# Altium footprint library WE-SHC.PcbLib: 139 footprints (part 9 of 10)
Each footprint in its own frame and in the unit in brackets; x right, y up, seen from the top. Pads: shape width x height; smd on the part's side, far side on the other; paste and mask are expansions set on the pad; w line width, h text height; cw(c..) or ccw(c..) is an arc to the next point about the centre after c.
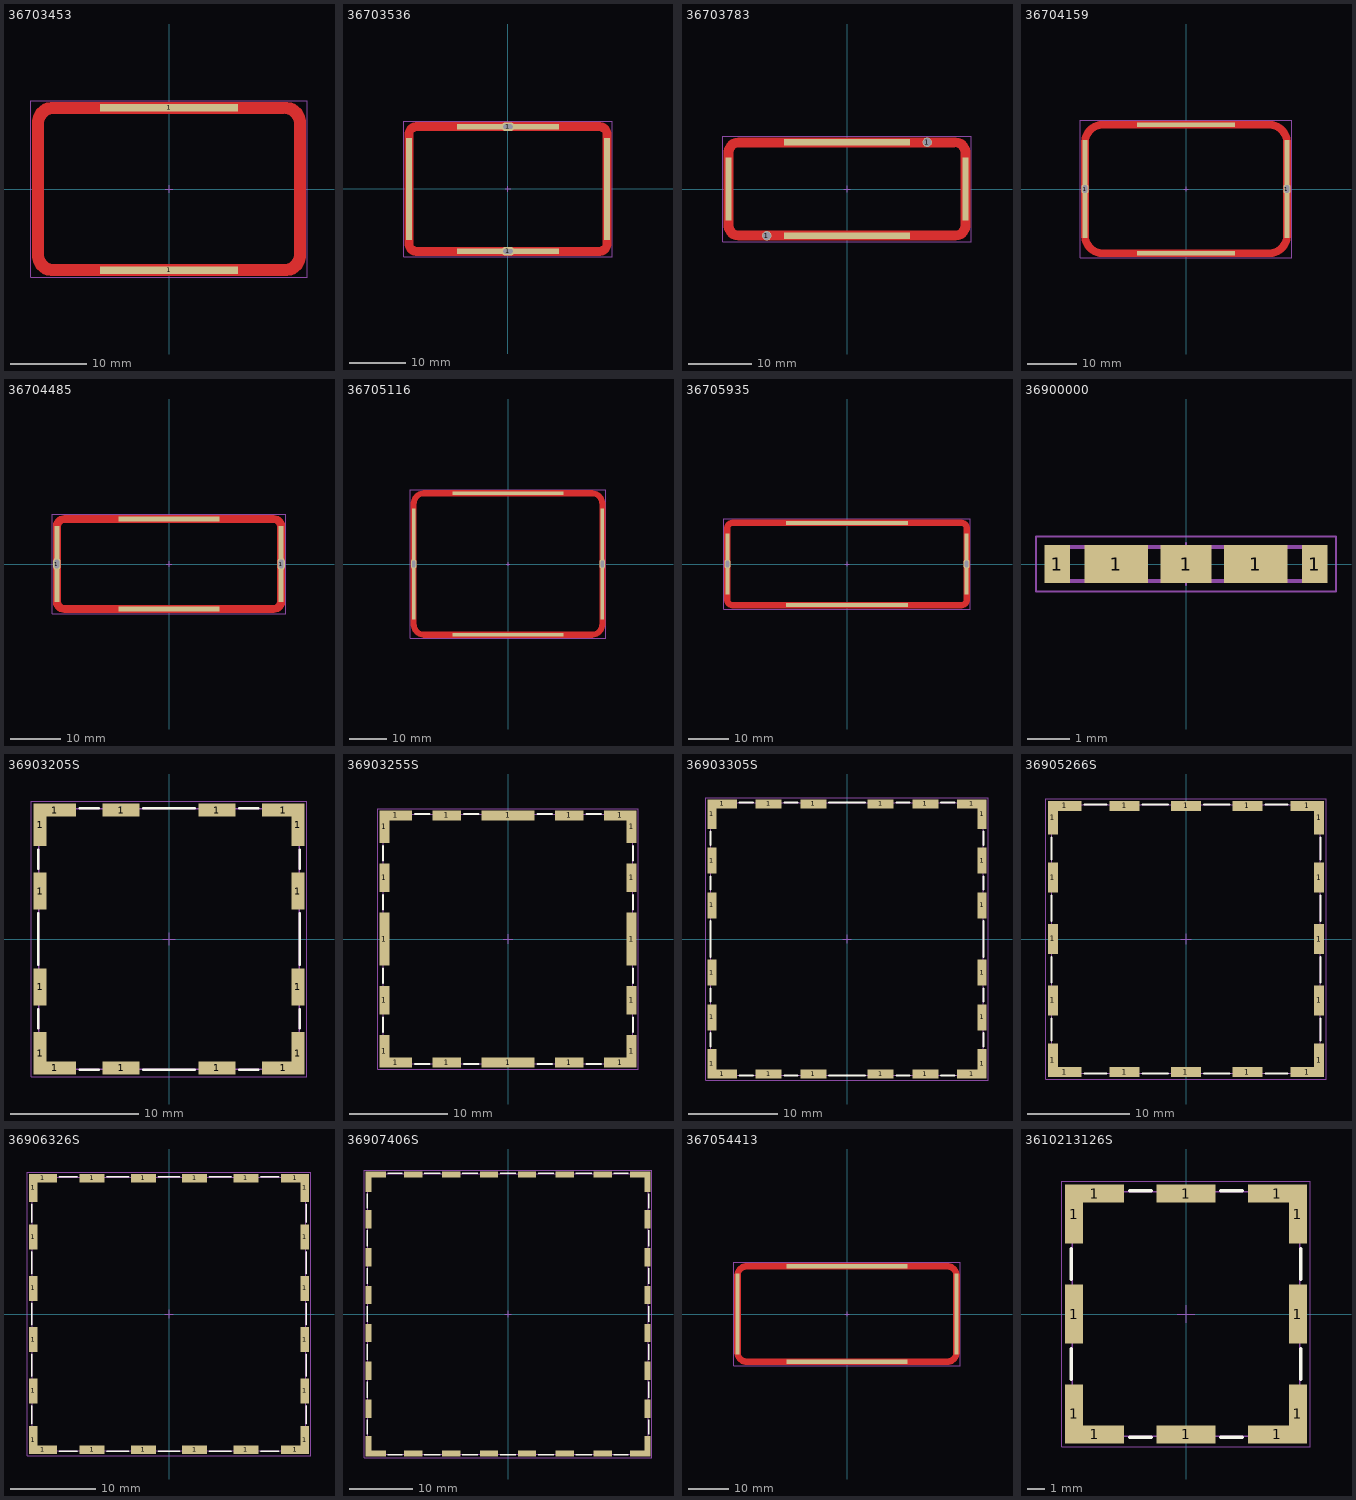
[diagram p8: the footprints below, top view; thin cyan lines are the x and y axes]

## 36703453 [mm] "Shielding Cabinet, SMT Frame Seamless, 34.5x21.5x3.2mm"
height 3.2
pads (2):
  rect 18x1 smd paste-2539.97 mask-2222: 1(0,-10.6) 1(0,10.6)
Top Layer:
  region: -17.85,-0.25 -17.85,-8.75 -17.85,-9.006 -17.75,-9.508 -17.554,-9.982 -17.27,-10.407 -16.907,-10.77 -16.482,-11.054 -16.008,-11.25 -15.506,-11.35 -15.25,-11.35 15.25,-11.35 15.506,-11.35 16.008,-11.25 16.482,-11.054 16.907,-10.77 17.27,-10.407 17.554,-9.982 17.75,-9.508 17.85,-9.006 17.85,-8.75 17.85,-0.25 16.35,-0.25 16.35,-8.55 16.344,-8.677 16.294,-8.927 16.196,-9.163 16.055,-9.375 15.875,-9.555 15.663,-9.696 15.427,-9.794 15.177,-9.844 15.05,-9.85 -15.05,-9.85 -15.177,-9.844 -15.427,-9.794 -15.663,-9.696 -15.875,-9.555 -16.055,-9.375 -16.196,-9.163 -16.294,-8.927 -16.344,-8.677 -16.35,-8.55 -16.35,-0.25
  region: -17.85,-1 -17.85,8.75 -17.85,9.006 -17.75,9.508 -17.554,9.982 -17.27,10.407 -16.907,10.77 -16.482,11.054 -16.008,11.25 -15.506,11.35 -15.25,11.35 15.25,11.35 15.506,11.35 16.008,11.25 16.482,11.054 16.907,10.77 17.27,10.407 17.554,9.982 17.75,9.508 17.85,9.006 17.85,8.75 17.85,-1 16.35,-1 16.35,8.55 16.344,8.677 16.294,8.927 16.196,9.163 16.055,9.375 15.875,9.555 15.663,9.696 15.427,9.794 15.177,9.844 15.05,9.85 -15.05,9.85 -15.177,9.844 -15.427,9.794 -15.663,9.696 -15.875,9.555 -16.055,9.375 -16.196,9.163 -16.294,8.927 -16.344,8.677 -16.35,8.55 -16.35,-1
Top Paste:
  region: -17.85,0.25 -17.85,8.75 -17.85,9.006 -17.75,9.508 -17.554,9.982 -17.27,10.407 -16.907,10.77 -16.482,11.054 -16.008,11.25 -15.506,11.35 -15.25,11.35 15.25,11.35 15.506,11.35 16.008,11.25 16.482,11.054 16.907,10.77 17.27,10.407 17.554,9.982 17.75,9.508 17.85,9.006 17.85,8.75 17.85,0.25 16.35,0.25 16.35,8.55 16.344,8.677 16.294,8.927 16.196,9.163 16.055,9.375 15.875,9.555 15.663,9.696 15.427,9.794 15.177,9.844 15.05,9.85 -15.05,9.85 -15.177,9.844 -15.427,9.794 -15.663,9.696 -15.875,9.555 -16.055,9.375 -16.196,9.163 -16.294,8.927 -16.344,8.677 -16.35,8.55 -16.35,0.25
  region: -17.85,-0.25 -17.85,-8.75 -17.85,-9.006 -17.75,-9.508 -17.554,-9.982 -17.27,-10.407 -16.907,-10.77 -16.482,-11.054 -16.008,-11.25 -15.506,-11.35 -15.25,-11.35 15.25,-11.35 15.506,-11.35 16.008,-11.25 16.482,-11.054 16.907,-10.77 17.27,-10.407 17.554,-9.982 17.75,-9.508 17.85,-9.006 17.85,-8.75 17.85,-0.25 16.35,-0.25 16.35,-8.55 16.344,-8.677 16.294,-8.927 16.196,-9.163 16.055,-9.375 15.875,-9.555 15.663,-9.696 15.427,-9.794 15.177,-9.844 15.05,-9.85 -15.05,-9.85 -15.177,-9.844 -15.427,-9.794 -15.663,-9.696 -15.875,-9.555 -16.055,-9.375 -16.196,-9.163 -16.294,-8.927 -16.344,-8.677 -16.35,-8.55 -16.35,-0.25
Assembly Notes:
  text "recommended tin paste thickness=0.5mm / customer to define the final stencil gap" at -5.4,-13 h0.4
Top Component Outline:
  lines w0.1: -17.25,-8.75 ccw(c-15.25,-8.75) -15.25,-10.75 15.25,-10.75 ccw(c15.25,-8.75) 17.25,-8.75 17.25,8.75 ccw(c15.25,8.75) 15.25,10.75 -15.25,10.75 ccw(c-15.25,8.75) -17.25,8.75 -17.25,-8.75
Top 3D Body:
  lines w0.1: -17.25,-8.75 ccw(c-15.25,-8.75) -15.25,-10.75 15.25,-10.75 ccw(c15.25,-8.75) 17.25,-8.75 17.25,8.75 ccw(c15.25,8.75) 15.25,10.75 -15.25,10.75 ccw(c-15.25,8.75) -17.25,8.75 -17.25,-8.75
Top Courtyard:
  lines w0.05: -18.05,-11.55 18.05,-11.55 18.05,11.55 -18.05,11.55 -18.05,-11.55
Top Component Center:
  lines w0.05: -0.5,0 0.5,0 ; 0,-0.5 0,0.5
Top Designator (Mech19):
  text ".Designator" at -7.498,-0.5 h1.5
3D body "36703453.stp": height 3.2, standoff 0, extent -17.25,-10.75 17.25,10.75

## 36703536 [mm] "Shielding Cabinet, SMT Frame Seamless, 35.3x22.3x6.4mm"
height 6.4
pads (6):
  rect 1x18 smd paste-2539.97 mask-2222: 1(-17.5,0) 1(17.5,0)
  rect 18x1 smd paste-2539.97 mask-2222: 1(0,-11) 1(0,11)
  oval 2.4x1.5 hole 0.8 slot 1.6 at 0 deg: 1(0,-11) 1(0,11)
Top Layer:
  region: -18.25,-0.25 -18.25,-9.7 -18.25,-9.902 -18.171,-10.298 -18.017,-10.671 -17.792,-11.007 -17.507,-11.292 -17.171,-11.517 -16.798,-11.671 -16.402,-11.75 -16.2,-11.75 16.2,-11.75 16.402,-11.75 16.798,-11.671 17.171,-11.517 17.507,-11.292 17.792,-11.007 18.017,-10.671 18.171,-10.298 18.25,-9.902 18.25,-9.7 18.25,-0.25 16.75,-0.25 16.75,-9.7 16.739,-9.807 16.657,-10.006 16.506,-10.157 16.307,-10.239 16.2,-10.25 -16.2,-10.25 -16.307,-10.239 -16.506,-10.157 -16.657,-10.006 -16.739,-9.807 -16.75,-9.7 -16.75,-0.25
  region: -18.25,-1 -18.25,9.7 -18.25,9.902 -18.171,10.298 -18.017,10.671 -17.792,11.007 -17.507,11.292 -17.171,11.517 -16.798,11.671 -16.402,11.75 -16.2,11.75 16.2,11.75 16.402,11.75 16.798,11.671 17.171,11.517 17.507,11.292 17.792,11.007 18.017,10.671 18.171,10.298 18.25,9.902 18.25,9.7 18.25,-1 16.75,-1 16.75,9.7 16.739,9.807 16.657,10.006 16.506,10.157 16.307,10.239 16.2,10.25 -16.2,10.25 -16.307,10.239 -16.506,10.157 -16.657,10.006 -16.739,9.807 -16.75,9.7 -16.75,-1
Top Paste:
  region: -18.25,0.25 -18.25,9.7 -18.25,9.902 -18.171,10.298 -18.017,10.671 -17.792,11.007 -17.507,11.292 -17.171,11.517 -16.798,11.671 -16.402,11.75 -16.2,11.75 16.2,11.75 16.402,11.75 16.798,11.671 17.171,11.517 17.507,11.292 17.792,11.007 18.017,10.671 18.171,10.298 18.25,9.902 18.25,9.7 18.25,0.25 16.75,0.25 16.75,9.7 16.739,9.807 16.657,10.006 16.506,10.157 16.307,10.239 16.2,10.25 -16.2,10.25 -16.307,10.239 -16.506,10.157 -16.657,10.006 -16.739,9.807 -16.75,9.7 -16.75,0.25
  region: -18.25,-0.25 -18.25,-9.7 -18.25,-9.902 -18.171,-10.298 -18.017,-10.671 -17.792,-11.007 -17.507,-11.292 -17.171,-11.517 -16.798,-11.671 -16.402,-11.75 -16.2,-11.75 16.2,-11.75 16.402,-11.75 16.798,-11.671 17.171,-11.517 17.507,-11.292 17.792,-11.007 18.017,-10.671 18.171,-10.298 18.25,-9.902 18.25,-9.7 18.25,-0.25 16.75,-0.25 16.75,-9.7 16.739,-9.807 16.657,-10.006 16.506,-10.157 16.307,-10.239 16.2,-10.25 -16.2,-10.25 -16.307,-10.239 -16.506,-10.157 -16.657,-10.006 -16.739,-9.807 -16.75,-9.7 -16.75,-0.25
Assembly Notes:
  text "recommended tin paste thickness=0.5mm / customer to define the final stencil gap" at -5.6,-13.4 h0.4
Top Component Outline:
  lines w0.1: -17.65,-9.65 ccw(c-16.15,-9.65) -16.15,-11.15 16.15,-11.15 ccw(c16.15,-9.65) 17.65,-9.65 17.65,9.65 ccw(c16.15,9.65) 16.15,11.15 -16.15,11.15 ccw(c-16.15,9.65) -17.65,9.65 -17.65,-9.65
Top 3D Body:
  lines w0.1: -17.65,-9.65 ccw(c-16.15,-9.65) -16.15,-11.15 16.15,-11.15 ccw(c16.15,-9.65) 17.65,-9.65 17.65,9.65 ccw(c16.15,9.65) 16.15,11.15 -16.15,11.15 ccw(c-16.15,9.65) -17.65,9.65 -17.65,-9.65
Top Courtyard:
  lines w0.05: -18.45,-11.95 18.45,-11.95 18.45,11.95 -18.45,11.95 -18.45,-11.95
Top Component Center:
  lines w0.05: -0.5,0 0.5,0 ; 0,-0.5 0,0.5
Top Designator (Mech19):
  text ".Designator" at -7.498,-0.5 h1.5
3D body "36703536.stp": height 6.4, standoff -0.6, extent -17.65,-11.15 17.65,11.15

## 36703783 [mm] "Shielding Cabinet, SMT Frame Seamless, 37.8x15.1x3.7mm"
height 3.7
pads (6):
  rect 1x10 smd paste-2539.97 mask-2222: 1(-18.75,0) 1(18.75,0)
  round 1.5 hole 1.3: 1(-12.7,-7.4) 1(12.7,7.4)
  rect 20x1 smd paste-2539.97 mask-2222: 1(0,-7.4) 1(0,7.4)
Top Layer:
  region: -19.5,-1 -19.5,5.75 -19.5,5.986 -19.408,6.45 -19.227,6.887 -18.964,7.28 -18.63,7.614 -18.237,7.877 -17.8,8.058 -17.336,8.15 -17.1,8.15 17.1,8.15 17.336,8.15 17.8,8.058 18.237,7.877 18.63,7.614 18.964,7.28 19.227,6.887 19.408,6.45 19.5,5.986 19.5,5.75 19.5,-1 18,-1 18,5.75 17.996,5.838 17.961,6.011 17.894,6.174 17.796,6.321 17.671,6.446 17.524,6.544 17.361,6.611 17.188,6.646 17.1,6.65 -17.1,6.65 -17.188,6.646 -17.361,6.611 -17.524,6.544 -17.671,6.446 -17.796,6.321 -17.894,6.174 -17.961,6.011 -17.996,5.838 -18,5.75 -18,-1
  region: -19.5,-0.25 -19.5,-5.75 -19.5,-5.986 -19.408,-6.45 -19.227,-6.887 -18.964,-7.28 -18.63,-7.614 -18.237,-7.877 -17.8,-8.058 -17.336,-8.15 -17.1,-8.15 17.1,-8.15 17.336,-8.15 17.8,-8.058 18.237,-7.877 18.63,-7.614 18.964,-7.28 19.227,-6.887 19.408,-6.45 19.5,-5.986 19.5,-5.75 19.5,-0.25 18,-0.25 18,-5.75 17.996,-5.838 17.961,-6.011 17.894,-6.174 17.796,-6.321 17.671,-6.446 17.524,-6.544 17.361,-6.611 17.188,-6.646 17.1,-6.65 -17.1,-6.65 -17.188,-6.646 -17.361,-6.611 -17.524,-6.544 -17.671,-6.446 -17.796,-6.321 -17.894,-6.174 -17.961,-6.011 -17.996,-5.838 -18,-5.75 -18,-0.25
Top Paste:
  region: -19.5,-0.25 -19.5,-5.75 -19.5,-5.986 -19.408,-6.45 -19.227,-6.887 -18.964,-7.28 -18.63,-7.614 -18.237,-7.877 -17.8,-8.058 -17.336,-8.15 -17.1,-8.15 17.1,-8.15 17.336,-8.15 17.8,-8.058 18.237,-7.877 18.63,-7.614 18.964,-7.28 19.227,-6.887 19.408,-6.45 19.5,-5.986 19.5,-5.75 19.5,-0.25 18,-0.25 18,-5.75 17.996,-5.838 17.961,-6.011 17.894,-6.174 17.796,-6.321 17.671,-6.446 17.524,-6.544 17.361,-6.611 17.188,-6.646 17.1,-6.65 -17.1,-6.65 -17.188,-6.646 -17.361,-6.611 -17.524,-6.544 -17.671,-6.446 -17.796,-6.321 -17.894,-6.174 -17.961,-6.011 -17.996,-5.838 -18,-5.75 -18,-0.25
  region: -19.5,0.25 -19.5,5.75 -19.5,5.986 -19.408,6.45 -19.227,6.887 -18.964,7.28 -18.63,7.614 -18.237,7.877 -17.8,8.058 -17.336,8.15 -17.1,8.15 17.1,8.15 17.336,8.15 17.8,8.058 18.237,7.877 18.63,7.614 18.964,7.28 19.227,6.887 19.408,6.45 19.5,5.986 19.5,5.75 19.5,0.25 18,0.25 18,5.75 17.996,5.838 17.961,6.011 17.894,6.174 17.796,6.321 17.671,6.446 17.524,6.544 17.361,6.611 17.188,6.646 17.1,6.65 -17.1,6.65 -17.188,6.646 -17.361,6.611 -17.524,6.544 -17.671,6.446 -17.796,6.321 -17.894,6.174 -17.961,6.011 -17.996,5.838 -18,5.75 -18,0.25
Assembly Notes:
  text "recommended tin paste thickness=0.5mm / customer to define the final stencil gap" at -5.2,-9.75 h0.4
Top Component Outline:
  lines w0.1: -18.9,-5.8 ccw(c-17.15,-5.8) -17.15,-7.55 17.15,-7.55 ccw(c17.15,-5.8) 18.9,-5.8 18.9,5.8 ccw(c17.15,5.8) 17.15,7.55 -17.15,7.55 ccw(c-17.15,5.8) -18.9,5.8 -18.9,-5.8
Top 3D Body:
  lines w0.1: -18.9,-5.8 ccw(c-17.15,-5.8) -17.15,-7.55 17.15,-7.55 ccw(c17.15,-5.8) 18.9,-5.8 18.9,5.8 ccw(c17.15,5.8) 17.15,7.55 -17.15,7.55 ccw(c-17.15,5.8) -18.9,5.8 -18.9,-5.8
Top Courtyard:
  lines w0.05: -19.7,-8.35 -19.7,8.35 19.7,8.35 19.7,-8.35 -19.7,-8.35
Top Component Center:
  lines w0.05: -0.5,0 0.5,0 ; 0,-0.5 0,0.5
Top Designator (Mech19):
  text ".Designator" at -7.498,-0.5 h1.5
3D body "36703783.stp": height 3.7, standoff -1, extent -18.9,-7.55 18.9,7.55

## 36704159 [mm] "Shielding Cabinet, SMT Frame Seamless, 41.5x26.5x9.5mm"
height 9.5
pads (6):
  rect 1x20 smd paste-2539.97 mask-2222: 1(-20.6,0) 1(20.6,0)
  oval 1.5x2.2 hole 0.9 slot 1.5 at 90 deg: 1(-20.6,0) 1(20.6,0)
  rect 20x1 smd paste-2539.97 mask-2222: 1(0,-13.1) 1(0,13.1)
Top Layer:
  region: 21.35,-9.45 21.35,9.45 21.35,9.738 21.275,10.31 21.125,10.867 20.905,11.4 20.616,11.9 20.265,12.357 19.857,12.765 19.4,13.116 18.9,13.405 18.367,13.625 17.81,13.775 17.238,13.85 16.95,13.85 0.25,13.85 0.25,12.35 16.95,12.35 17.14,12.344 17.516,12.294 17.882,12.196 18.233,12.051 18.561,11.861 18.862,11.63 19.13,11.362 19.361,11.061 19.551,10.733 19.696,10.382 19.794,10.016 19.844,9.64 19.85,9.45 19.85,-9.45 19.844,-9.64 19.794,-10.016 19.696,-10.382 19.551,-10.733 19.361,-11.061 19.13,-11.362 18.862,-11.63 18.561,-11.861 18.233,-12.051 17.882,-12.196 17.516,-12.294 17.14,-12.344 16.95,-12.35 0.25,-12.35 0.25,-13.85 16.95,-13.85 17.238,-13.85 17.81,-13.775 18.367,-13.625 18.9,-13.405 19.4,-13.116 19.857,-12.765 20.265,-12.357 20.616,-11.9 20.905,-11.4 21.125,-10.867 21.275,-10.31 21.35,-9.738
  region: -21.35,-9.45 -21.35,9.45 -21.35,9.738 -21.275,10.31 -21.125,10.867 -20.905,11.4 -20.616,11.9 -20.265,12.357 -19.857,12.765 -19.4,13.116 -18.9,13.405 -18.367,13.625 -17.81,13.775 -17.238,13.85 -16.95,13.85 1,13.85 1,12.35 -16.95,12.35 -17.14,12.344 -17.516,12.294 -17.882,12.196 -18.233,12.051 -18.561,11.861 -18.862,11.63 -19.13,11.362 -19.361,11.061 -19.551,10.733 -19.696,10.382 -19.794,10.016 -19.844,9.64 -19.85,9.45 -19.85,-9.45 -19.844,-9.64 -19.794,-10.016 -19.696,-10.382 -19.551,-10.733 -19.361,-11.061 -19.13,-11.362 -18.862,-11.63 -18.561,-11.861 -18.233,-12.051 -17.882,-12.196 -17.516,-12.294 -17.14,-12.344 -16.95,-12.35 1,-12.35 1,-13.85 -16.95,-13.85 -17.238,-13.85 -17.81,-13.775 -18.367,-13.625 -18.9,-13.405 -19.4,-13.116 -19.857,-12.765 -20.265,-12.357 -20.616,-11.9 -20.905,-11.4 -21.125,-10.867 -21.275,-10.31 -21.35,-9.738
Top Paste:
  region: -21.35,-9.45 -21.35,9.45 -21.35,9.738 -21.275,10.31 -21.125,10.867 -20.905,11.4 -20.616,11.9 -20.265,12.357 -19.857,12.765 -19.4,13.116 -18.9,13.405 -18.367,13.625 -17.81,13.775 -17.238,13.85 -16.95,13.85 -0.25,13.85 -0.25,12.35 -16.95,12.35 -17.14,12.344 -17.516,12.294 -17.882,12.196 -18.233,12.051 -18.561,11.861 -18.862,11.63 -19.13,11.362 -19.361,11.061 -19.551,10.733 -19.696,10.382 -19.794,10.016 -19.844,9.64 -19.85,9.45 -19.85,-9.45 -19.844,-9.64 -19.794,-10.016 -19.696,-10.382 -19.551,-10.733 -19.361,-11.061 -19.13,-11.362 -18.862,-11.63 -18.561,-11.861 -18.233,-12.051 -17.882,-12.196 -17.516,-12.294 -17.14,-12.344 -16.95,-12.35 -0.25,-12.35 -0.25,-13.85 -16.95,-13.85 -17.238,-13.85 -17.81,-13.775 -18.367,-13.625 -18.9,-13.405 -19.4,-13.116 -19.857,-12.765 -20.265,-12.357 -20.616,-11.9 -20.905,-11.4 -21.125,-10.867 -21.275,-10.31 -21.35,-9.738
  region: 21.35,-9.45 21.35,9.45 21.35,9.738 21.275,10.31 21.125,10.867 20.905,11.4 20.616,11.9 20.265,12.357 19.857,12.765 19.4,13.116 18.9,13.405 18.367,13.625 17.81,13.775 17.238,13.85 16.95,13.85 0.25,13.85 0.25,12.35 16.95,12.35 17.14,12.344 17.516,12.294 17.882,12.196 18.233,12.051 18.561,11.861 18.862,11.63 19.13,11.362 19.361,11.061 19.551,10.733 19.696,10.382 19.794,10.016 19.844,9.64 19.85,9.45 19.85,-9.45 19.844,-9.64 19.794,-10.016 19.696,-10.382 19.551,-10.733 19.361,-11.061 19.13,-11.362 18.862,-11.63 18.561,-11.861 18.233,-12.051 17.882,-12.196 17.516,-12.294 17.14,-12.344 16.95,-12.35 0.25,-12.35 0.25,-13.85 16.95,-13.85 17.238,-13.85 17.81,-13.775 18.367,-13.625 18.9,-13.405 19.4,-13.116 19.857,-12.765 20.265,-12.357 20.616,-11.9 20.905,-11.4 21.125,-10.867 21.275,-10.31 21.35,-9.738
Assembly Notes:
  text "recommended tin paste thickness=0.5mm / customer to define the final stencil gap" at -6.35,-15.45 h0.4
Top Component Outline:
  lines w0.1: -20.75,-9.5 ccw(c-17,-9.5) -17,-13.25 17,-13.25 ccw(c17,-9.5) 20.75,-9.5 20.75,9.5 ccw(c17,9.5) 17,13.25 -17,13.25 ccw(c-17,9.5) -20.75,9.5 -20.75,-9.5
Top 3D Body:
  lines w0.1: -20.75,-9.5 ccw(c-17,-9.5) -17,-13.25 17,-13.25 ccw(c17,-9.5) 20.75,-9.5 20.75,9.5 ccw(c17,9.5) 17,13.25 -17,13.25 ccw(c-17,9.5) -20.75,9.5 -20.75,-9.5
Top Courtyard:
  lines w0.05: -21.55,-14.05 -21.55,14.05 21.55,14.05 21.55,-14.05 -21.55,-14.05
Top Component Center:
  lines w0.05: -0.5,0 0.5,0 ; 0,-0.5 0,0.5
Top Designator (Mech19):
  text ".Designator" at -7.498,-0.5 h1.5
3D body "36704159.stp": height 9.5, standoff -0.6, extent -20.75,-13.25 20.75,13.25

## 36704485 [mm] "Shielding Cabinet, SMT Frame Seamless, 44.8x18.2x5.7mm"
height 5.7
pads (6):
  rect 1x15 smd paste-2539.97 mask-2222: 1(-22.25,0) 1(22.25,0)
  oval 1.5x2.5 hole 0.9 slot 1.7 at 90 deg: 1(-22.25,0) 1(22.25,0)
  rect 20x1 smd paste-2539.97 mask-2222: 1(0,-8.95) 1(0,8.95)
Top Layer:
  region: 23,-7.3 23,7.3 23,7.536 22.908,8 22.727,8.437 22.464,8.83 22.13,9.164 21.737,9.427 21.3,9.608 20.836,9.7 20.6,9.7 0.25,9.7 0.25,8.2 20.6,8.2 20.688,8.196 20.861,8.161 21.024,8.094 21.171,7.996 21.296,7.871 21.394,7.724 21.461,7.561 21.496,7.388 21.5,7.3 21.5,-7.3 21.496,-7.388 21.461,-7.561 21.394,-7.724 21.296,-7.871 21.171,-7.996 21.024,-8.094 20.861,-8.161 20.688,-8.196 20.6,-8.2 0.25,-8.2 0.25,-9.7 20.6,-9.7 20.836,-9.7 21.3,-9.608 21.737,-9.427 22.13,-9.164 22.464,-8.83 22.727,-8.437 22.908,-8 23,-7.536
  region: -23,-7.3 -23,7.3 -23,7.536 -22.908,8 -22.727,8.437 -22.464,8.83 -22.13,9.164 -21.737,9.427 -21.3,9.608 -20.836,9.7 -20.6,9.7 1,9.7 1,8.2 -20.6,8.2 -20.688,8.196 -20.861,8.161 -21.024,8.094 -21.171,7.996 -21.296,7.871 -21.394,7.724 -21.461,7.561 -21.496,7.388 -21.5,7.3 -21.5,-7.3 -21.496,-7.388 -21.461,-7.561 -21.394,-7.724 -21.296,-7.871 -21.171,-7.996 -21.024,-8.094 -20.861,-8.161 -20.688,-8.196 -20.6,-8.2 1,-8.2 1,-9.7 -20.6,-9.7 -20.836,-9.7 -21.3,-9.608 -21.737,-9.427 -22.13,-9.164 -22.464,-8.83 -22.727,-8.437 -22.908,-8 -23,-7.536
Top Paste:
  region: -23,-7.3 -23,7.3 -23,7.536 -22.908,8 -22.727,8.437 -22.464,8.83 -22.13,9.164 -21.737,9.427 -21.3,9.608 -20.836,9.7 -20.6,9.7 -0.25,9.7 -0.25,8.2 -20.6,8.2 -20.688,8.196 -20.861,8.161 -21.024,8.094 -21.171,7.996 -21.296,7.871 -21.394,7.724 -21.461,7.561 -21.496,7.388 -21.5,7.3 -21.5,-7.3 -21.496,-7.388 -21.461,-7.561 -21.394,-7.724 -21.296,-7.871 -21.171,-7.996 -21.024,-8.094 -20.861,-8.161 -20.688,-8.196 -20.6,-8.2 -0.25,-8.2 -0.25,-9.7 -20.6,-9.7 -20.836,-9.7 -21.3,-9.608 -21.737,-9.427 -22.13,-9.164 -22.464,-8.83 -22.727,-8.437 -22.908,-8 -23,-7.536
  region: 23,-7.3 23,7.3 23,7.536 22.908,8 22.727,8.437 22.464,8.83 22.13,9.164 21.737,9.427 21.3,9.608 20.836,9.7 20.6,9.7 0.25,9.7 0.25,8.2 20.6,8.2 20.688,8.196 20.861,8.161 21.024,8.094 21.171,7.996 21.296,7.871 21.394,7.724 21.461,7.561 21.496,7.388 21.5,7.3 21.5,-7.3 21.496,-7.388 21.461,-7.561 21.394,-7.724 21.296,-7.871 21.171,-7.996 21.024,-8.094 20.861,-8.161 20.688,-8.196 20.6,-8.2 0.25,-8.2 0.25,-9.7 20.6,-9.7 20.836,-9.7 21.3,-9.608 21.737,-9.427 22.13,-9.164 22.464,-8.83 22.727,-8.437 22.908,-8 23,-7.536
Assembly Notes:
  text "recommended tin paste thickness=0.5mm / customer to define the final stencil gap" at -6.35,-11.5 h0.4
Top Component Outline:
  lines w0.1: -22.4,-7.35 ccw(c-20.65,-7.35) -20.65,-9.1 20.65,-9.1 ccw(c20.65,-7.35) 22.4,-7.35 22.4,7.35 ccw(c20.65,7.35) 20.65,9.1 -20.65,9.1 ccw(c-20.65,7.35) -22.4,7.35 -22.4,-7.35
Top 3D Body:
  lines w0.1: -22.4,-7.35 ccw(c-20.65,-7.35) -20.65,-9.1 20.65,-9.1 ccw(c20.65,-7.35) 22.4,-7.35 22.4,7.35 ccw(c20.65,7.35) 20.65,9.1 -20.65,9.1 ccw(c-20.65,7.35) -22.4,7.35 -22.4,-7.35
Top Courtyard:
  lines w0.05: -23.2,-9.9 23.2,-9.9 23.2,9.9 -23.2,9.9 -23.2,-9.9
Top Component Center:
  lines w0.05: -0.5,0 0.5,0 ; 0,-0.5 0,0.5
Top Designator (Mech19):
  text ".Designator" at -7.498,-0.5 h1.5
3D body "36704485.stp": height 5.7, standoff -0.5, extent -22.4,-9.1 22.4,9.1

## 36705116 [mm] "Shielding Cabinet, SMT Frame Seamless, 51.1x38.4x6.5mm"
height 6.5
pads (6):
  rect 1x30 smd paste-2539.97 mask-2222: 1(-25.4,0) 1(25.4,0)
  oval 1.5x2.7 hole 0.8 slot 1.8 at 90 deg: 1(-25.4,0) 1(25.4,0)
  rect 30x1 smd paste-2539.97 mask-2222: 1(0,-19.05) 1(0,19.05)
Top Layer:
  region: -26.15,-16.2 -26.15,16.2 -26.15,16.436 -26.088,16.904 -25.966,17.36 -25.786,17.796 -25.55,18.204 -25.262,18.579 -24.929,18.912 -24.554,19.2 -24.146,19.436 -23.71,19.616 -23.254,19.738 -22.786,19.8 -22.55,19.8 1,19.8 1,18.3 -22.55,18.3 -22.756,18.29 -23.16,18.21 -23.54,18.052 -23.882,17.823 -24.173,17.532 -24.402,17.19 -24.56,16.81 -24.64,16.406 -24.65,16.2 -24.65,-16.2 -24.64,-16.406 -24.56,-16.81 -24.402,-17.19 -24.173,-17.532 -23.882,-17.823 -23.54,-18.052 -23.16,-18.21 -22.756,-18.29 -22.55,-18.3 1,-18.3 1,-19.8 -22.55,-19.8 -22.786,-19.8 -23.254,-19.738 -23.71,-19.616 -24.146,-19.436 -24.554,-19.2 -24.929,-18.912 -25.262,-18.579 -25.55,-18.204 -25.786,-17.796 -25.966,-17.36 -26.088,-16.904 -26.15,-16.436
  region: 26.15,-16.2 26.15,16.2 26.15,16.436 26.088,16.904 25.966,17.36 25.786,17.796 25.55,18.204 25.262,18.579 24.929,18.912 24.554,19.2 24.146,19.436 23.71,19.616 23.254,19.738 22.786,19.8 22.55,19.8 0.25,19.8 0.25,18.3 22.55,18.3 22.756,18.29 23.16,18.21 23.54,18.052 23.882,17.823 24.173,17.532 24.402,17.19 24.56,16.81 24.64,16.406 24.65,16.2 24.65,-16.2 24.64,-16.406 24.56,-16.81 24.402,-17.19 24.173,-17.532 23.882,-17.823 23.54,-18.052 23.16,-18.21 22.756,-18.29 22.55,-18.3 0.25,-18.3 0.25,-19.8 22.55,-19.8 22.786,-19.8 23.254,-19.738 23.71,-19.616 24.146,-19.436 24.554,-19.2 24.929,-18.912 25.262,-18.579 25.55,-18.204 25.786,-17.796 25.966,-17.36 26.088,-16.904 26.15,-16.436
Top Paste:
  region: 26.15,-16.2 26.15,16.2 26.15,16.436 26.088,16.904 25.966,17.36 25.786,17.796 25.55,18.204 25.262,18.579 24.929,18.912 24.554,19.2 24.146,19.436 23.71,19.616 23.254,19.738 22.786,19.8 22.55,19.8 0.25,19.8 0.25,18.3 22.55,18.3 22.756,18.29 23.16,18.21 23.54,18.052 23.882,17.823 24.173,17.532 24.402,17.19 24.56,16.81 24.64,16.406 24.65,16.2 24.65,-16.2 24.64,-16.406 24.56,-16.81 24.402,-17.19 24.173,-17.532 23.882,-17.823 23.54,-18.052 23.16,-18.21 22.756,-18.29 22.55,-18.3 0.25,-18.3 0.25,-19.8 22.55,-19.8 22.786,-19.8 23.254,-19.738 23.71,-19.616 24.146,-19.436 24.554,-19.2 24.929,-18.912 25.262,-18.579 25.55,-18.204 25.786,-17.796 25.966,-17.36 26.088,-16.904 26.15,-16.436
  region: -26.15,-16.2 -26.15,16.2 -26.15,16.436 -26.088,16.904 -25.966,17.36 -25.786,17.796 -25.55,18.204 -25.262,18.579 -24.929,18.912 -24.554,19.2 -24.146,19.436 -23.71,19.616 -23.254,19.738 -22.786,19.8 -22.55,19.8 -0.25,19.8 -0.25,18.3 -22.55,18.3 -22.756,18.29 -23.16,18.21 -23.54,18.052 -23.882,17.823 -24.173,17.532 -24.402,17.19 -24.56,16.81 -24.64,16.406 -24.65,16.2 -24.65,-16.2 -24.64,-16.406 -24.56,-16.81 -24.402,-17.19 -24.173,-17.532 -23.882,-17.823 -23.54,-18.052 -23.16,-18.21 -22.756,-18.29 -22.55,-18.3 -0.25,-18.3 -0.25,-19.8 -22.55,-19.8 -22.786,-19.8 -23.254,-19.738 -23.71,-19.616 -24.146,-19.436 -24.554,-19.2 -24.929,-18.912 -25.262,-18.579 -25.55,-18.204 -25.786,-17.796 -25.966,-17.36 -26.088,-16.904 -26.15,-16.436
Assembly Notes:
  text "recommended tin paste thickness=0.5mm / customer to define the final stencil gap" at -7.95,-22.2 h0.5
Top Component Outline:
  lines w0.1: -25.55,-16.2 ccw(c-22.55,-16.2) -22.55,-19.2 22.55,-19.2 ccw(c22.55,-16.2) 25.55,-16.2 25.55,16.2 ccw(c22.55,16.2) 22.55,19.2 -22.55,19.2 ccw(c-22.55,16.2) -25.55,16.2 -25.55,-16.2
Top 3D Body:
  lines w0.1: -25.55,-16.2 ccw(c-22.55,-16.2) -22.55,-19.2 22.55,-19.2 ccw(c22.55,-16.2) 25.55,-16.2 25.55,16.2 ccw(c22.55,16.2) 22.55,19.2 -22.55,19.2 ccw(c-22.55,16.2) -25.55,16.2 -25.55,-16.2
Top Courtyard:
  lines w0.05: -26.35,-20 26.35,-20 26.35,20 -26.35,20 -26.35,-20
Top Component Center:
  lines w0.05: -0.5,0 0.5,0 ; 0,-0.5 0,0.5
Top Designator (Mech19):
  text ".Designator" at -7.498,-0.5 h1.5
3D body "36705116.stp": height 6.5, standoff -0.6, extent -25.55,-19.2 25.55,19.2

## 36705935 [mm] "Shielding Cabinet, SMT Frame Seamless, 59.3x20.6x5.7mm"
height 5.7
pads (6):
  rect 1x15 smd paste-2539.97 mask-2222: 1(-29.5,0) 1(29.5,0)
  oval 1.5x2.4 hole 0.8 slot 1.6 at 90 deg: 1(-29.5,0) 1(29.5,0)
  rect 30x1 smd paste-2539.97 mask-2222: 1(0,-10.15) 1(0,10.15)
Top Layer:
  region: -30.25,-8.9 -30.25,8.9 -30.25,9.097 -30.173,9.483 -30.022,9.847 -29.804,10.175 -29.525,10.454 -29.197,10.672 -28.833,10.823 -28.447,10.9 -28.25,10.9 1,10.9 1,9.4 -28.25,9.4 -28.348,9.39 -28.528,9.316 -28.666,9.178 -28.74,8.998 -28.75,8.9 -28.75,-8.9 -28.74,-8.998 -28.666,-9.178 -28.528,-9.316 -28.348,-9.39 -28.25,-9.4 1,-9.4 1,-10.9 -28.25,-10.9 -28.447,-10.9 -28.833,-10.823 -29.197,-10.672 -29.525,-10.454 -29.804,-10.175 -30.022,-9.847 -30.173,-9.483 -30.25,-9.097
  region: 30.25,-8.9 30.25,8.9 30.25,9.097 30.173,9.483 30.022,9.847 29.804,10.175 29.525,10.454 29.197,10.672 28.833,10.823 28.447,10.9 28.25,10.9 0.25,10.9 0.25,9.4 28.25,9.4 28.348,9.39 28.528,9.316 28.666,9.178 28.74,8.998 28.75,8.9 28.75,-8.9 28.74,-8.998 28.666,-9.178 28.528,-9.316 28.348,-9.39 28.25,-9.4 0.25,-9.4 0.25,-10.9 28.25,-10.9 28.447,-10.9 28.833,-10.823 29.197,-10.672 29.525,-10.454 29.804,-10.175 30.022,-9.847 30.173,-9.483 30.25,-9.097
Top Paste:
  region: 30.25,-8.9 30.25,8.9 30.25,9.097 30.173,9.483 30.022,9.847 29.804,10.175 29.525,10.454 29.197,10.672 28.833,10.823 28.447,10.9 28.25,10.9 0.25,10.9 0.25,9.4 28.25,9.4 28.348,9.39 28.528,9.316 28.666,9.178 28.74,8.998 28.75,8.9 28.75,-8.9 28.74,-8.998 28.666,-9.178 28.528,-9.316 28.348,-9.39 28.25,-9.4 0.25,-9.4 0.25,-10.9 28.25,-10.9 28.447,-10.9 28.833,-10.823 29.197,-10.672 29.525,-10.454 29.804,-10.175 30.022,-9.847 30.173,-9.483 30.25,-9.097
  region: -30.25,-8.9 -30.25,8.9 -30.25,9.097 -30.173,9.483 -30.022,9.847 -29.804,10.175 -29.525,10.454 -29.197,10.672 -28.833,10.823 -28.447,10.9 -28.25,10.9 -0.25,10.9 -0.25,9.4 -28.25,9.4 -28.348,9.39 -28.528,9.316 -28.666,9.178 -28.74,8.998 -28.75,8.9 -28.75,-8.9 -28.74,-8.998 -28.666,-9.178 -28.528,-9.316 -28.348,-9.39 -28.25,-9.4 -0.25,-9.4 -0.25,-10.9 -28.25,-10.9 -28.447,-10.9 -28.833,-10.823 -29.197,-10.672 -29.525,-10.454 -29.804,-10.175 -30.022,-9.847 -30.173,-9.483 -30.25,-9.097
Assembly Notes:
  text "recommended tin paste thickness=0.5mm / customer to define the final stencil gap" at -10,-13.55 h0.6
Top Component Outline:
  lines w0.1: -29.65,-8.8 ccw(c-28.15,-8.8) -28.15,-10.3 28.15,-10.3 ccw(c28.15,-8.8) 29.65,-8.8 29.65,8.8 ccw(c28.15,8.8) 28.15,10.3 -28.15,10.3 ccw(c-28.15,8.8) -29.65,8.8 -29.65,-8.8
Top 3D Body:
  lines w0.1: -29.65,-8.8 ccw(c-28.15,-8.8) -28.15,-10.3 28.15,-10.3 ccw(c28.15,-8.8) 29.65,-8.8 29.65,8.8 ccw(c28.15,8.8) 28.15,10.3 -28.15,10.3 ccw(c-28.15,8.8) -29.65,8.8 -29.65,-8.8
Top Courtyard:
  lines w0.05: -30.45,-11.1 -30.45,11.1 30.45,11.1 30.45,-11.1 -30.45,-11.1
Top Component Center:
  lines w0.05: -0.5,0 0.5,0 ; 0,-0.5 0,0.5
Top Designator (Mech19):
  text ".Designator" at -7.498,-0.5 h1.5
3D body "36705935.stp": height 5.7, standoff -0.8, extent -29.65,-10.3 29.65,10.3

## 36900000 [mm] "Shielding Cabinet Clip"
height 1.43
pads (5):
  rect 0.6x0.9 smd: 1(-3.05,0) 1(3.05,0)
  rect 1.5x0.9 smd: 1(-1.65,0) 1(1.65,0)
  rect 1.2x0.9 smd: 1(0,0)
Top Component Outline:
  lines w0.1: -3.25,-0.4 -3.25,0.4 3.25,0.4 3.25,-0.4 -3.25,-0.4
Top 3D Body:
  lines w0.1: -3.25,-0.4 3.25,-0.4 3.25,0.4 -3.25,0.4 -3.25,-0.4
Top Courtyard:
  lines w0.05: -3.55,-0.65 3.55,-0.65 3.55,0.65 -3.55,0.65 -3.55,-0.65
Top Component Center:
  lines w0.05: -0.5,0 0.5,0 ; 0,-0.5 0,0.5
Top Designator (Mech19):
  text ".Designator" at -2.499,-0.167 h0.5
3D body "36900000.stp": height 1.28, standoff 0, extent -3.25,-0.41 3.25,0.41

## 36903205S [mm] "Shielding Cabinet, body 20.4x20.4mm"
height 3.25
pads (16):
  rect 1x3.3 smd: 1(-10.1,-8.95) 1(-10.1,8.95) 1(10.1,-8.95) 1(10.1,8.95)
  rect 1x2.9 smd: 1(-10.1,-3.75) 1(-10.1,3.75) 1(10.1,-3.75) 1(10.1,3.75)
  rect 3.3x1 smd: 1(-8.95,-10.1) 1(-8.95,10.1) 1(8.95,-10.1) 1(8.95,10.1)
  rect 2.9x1 smd: 1(-3.75,-10.1) 1(-3.75,10.1) 1(3.75,-10.1) 1(3.75,10.1)
Top Overlay:
  lines w0.2: -10.25,-7 -10.25,-5.5 ; -10.25,-2 -10.25,2 ; -10.25,5.5 -10.25,7 ; -7,-10.25 -5.5,-10.25 ; -7,10.25 -5.5,10.25 ; -2,-10.25 2,-10.25 ; -2,10.25 2,10.25 ; 5.5,-10.25 7,-10.25 ; 5.5,10.25 7,10.25 ; 10.25,-7 10.25,-5.5 ; 10.25,-2 10.25,2 ; 10.25,5.5 10.25,7
Top Component Outline:
  lines w0.1: -10.2,-10.2 10.2,-10.2 10.2,10.2 -10.2,10.2 -10.2,-10.2
Top 3D Body:
  lines w0.1: -10.2,-10.2 -10.2,10.2 10.2,10.2 10.2,-10.2 -10.2,-10.2
Top Courtyard:
  lines w0.05: -10.8,-10.8 10.8,-10.8 10.8,10.8 -10.8,10.8 -10.8,-10.8
Top Component Center:
  lines w0.05: -0.5,0 0.5,0 ; 0,-0.5 0,0.5
Top Designator (Mech19):
  text ".Designator" at -7.498,-0.5 h1.5
3D body "36903205S.stp": height 3.21, standoff 0.01, extent -10.2,-10.2 10.2,10.2

## 36903255S [mm] "Shielding Cabinet, body 25.4x25.4mm"
height 3.25
pads (20):
  rect 1x3.3 smd: 1(-12.6,-11.45) 1(-12.6,11.45) 1(12.6,-11.45) 1(12.6,11.45)
  rect 1x2.9 smd: 1(-12.6,-6.25) 1(-12.6,6.25) 1(12.6,-6.25) 1(12.6,6.25)
  rect 1x5.4 smd: 1(-12.6,0) 1(12.6,0)
  rect 3.3x1 smd: 1(-11.45,-12.6) 1(-11.45,12.6) 1(11.45,-12.6) 1(11.45,12.6)
  rect 2.9x1 smd: 1(-6.25,-12.6) 1(-6.25,12.6) 1(6.25,-12.6) 1(6.25,12.6)
  rect 5.4x1 smd: 1(0,-12.6) 1(0,12.6)
Top Overlay:
  lines w0.2: -12.75,-9.5 -12.75,-8 ; -12.75,-4.5 -12.75,-3 ; -12.75,3 -12.75,4.5 ; -12.75,8 -12.75,9.5 ; -9.5,-12.75 -8,-12.75 ; -9.5,12.75 -8,12.75 ; -4.5,-12.75 -3,-12.75 ; -4.5,12.75 -3,12.75 ; 3,-12.75 4.5,-12.75 ; 3,12.75 4.5,12.75 ; 8,-12.75 9.5,-12.75 ; 8,12.75 9.5,12.75 ; 12.75,-9.5 12.75,-8 ; 12.75,-4.5 12.75,-3 ; 12.75,3 12.75,4.5 ; 12.75,8 12.75,9.5
Top Component Outline:
  lines w0.1: -12.7,-12.7 12.7,-12.7 12.7,12.7 -12.7,12.7 -12.7,-12.7
Top 3D Body:
  lines w0.1: -12.7,-12.7 -12.7,12.7 12.7,12.7 12.7,-12.7 -12.7,-12.7
Top Courtyard:
  lines w0.05: -13.3,-13.3 13.3,-13.3 13.3,13.3 -13.3,13.3 -13.3,-13.3
Top Component Center:
  lines w0.05: -0.5,0 0.5,0 ; 0,-0.5 0,0.5
Top Designator (Mech19):
  text ".Designator" at -7.498,-0.5 h1.5
3D body "36903255S.stp": height 3.2, standoff 0, extent -12.7,-12.7 12.7,12.7

## 36903305S [mm] "Shielding Cabinet, body 30.4x30.4mm"
height 3.25
pads (24):
  rect 1x3.3 smd: 1(-15.1,-13.95) 1(-15.1,13.95) 1(15.1,-13.95) 1(15.1,13.95)
  rect 1x2.9 smd: 1(-15.1,-8.75) 1(-15.1,-3.75) 1(-15.1,3.75) 1(-15.1,8.75) 1(15.1,-8.75) 1(15.1,-3.75) 1(15.1,3.75) 1(15.1,8.75)
  rect 3.3x1 smd: 1(-13.95,-15.1) 1(-13.95,15.1) 1(13.95,-15.1) 1(13.95,15.1)
  rect 2.9x1 smd: 1(-8.75,-15.1) 1(-8.75,15.1) 1(-3.75,-15.1) 1(-3.75,15.1) 1(3.75,-15.1) 1(3.75,15.1) 1(8.75,-15.1) 1(8.75,15.1)
Top Overlay:
  lines w0.2: -15.25,-12 -15.25,-10.5 ; -15.25,-7 -15.25,-5.5 ; -15.25,-2 -15.25,2 ; -15.25,5.5 -15.25,7 ; -15.25,10.5 -15.25,12 ; -12,-15.25 -10.5,-15.25 ; -12,15.25 -10.5,15.25 ; -7,-15.25 -5.5,-15.25 ; -7,15.25 -5.5,15.25 ; -2,-15.25 2,-15.25 ; -2,15.25 2,15.25 ; 5.5,-15.25 7,-15.25 ; 5.5,15.25 7,15.25 ; 10.5,-15.25 12,-15.25 ; 10.5,15.25 12,15.25 ; 15.25,-12 15.25,-10.5 ; 15.25,-7 15.25,-5.5 ; 15.25,-2 15.25,2 ; 15.25,5.5 15.25,7 ; 15.25,10.5 15.25,12
Top Component Outline:
  lines w0.1: -15.2,-15.2 15.2,-15.2 15.2,15.2 -15.2,15.2 -15.2,-15.2
Top 3D Body:
  lines w0.1: -15.2,-15.2 -15.2,15.2 15.2,15.2 15.2,-15.2 -15.2,-15.2
Top Courtyard:
  lines w0.05: -15.8,-15.8 15.8,-15.8 15.8,15.8 -15.8,15.8 -15.8,-15.8
Top Component Center:
  lines w0.05: -0.5,0 0.5,0 ; 0,-0.5 0,0.5
Top Designator (Mech19):
  text ".Designator" at -7.498,-0.5 h1.5
3D body "36903305S.stp": height 3.2, standoff 0, extent -15.2,-15.2 15.2,15.2

## 36905266S [mm] "Shielding Cabinet, body 26.21x26.21mm"
height 5.13
pads (20):
  rect 1x3.3 smd: 1(-13.005,-11.855) 1(-13.005,11.855) 1(13.005,-11.855) 1(13.005,11.855)
  rect 1x2.9 smd: 1(-13.005,-6) 1(-13.005,0) 1(-13.005,6) 1(13.005,-6) 1(13.005,0) 1(13.005,6)
  rect 3.3x1 smd: 1(-11.855,-13.005) 1(-11.855,13.005) 1(11.855,-13.005) 1(11.855,13.005)
  rect 2.9x1 smd: 1(-6,-13.005) 1(-6,13.005) 1(0,-13.005) 1(0,13.005) 1(6,-13.005) 1(6,13.005)
Top Overlay:
  lines w0.2: -13.155,-9.9 -13.155,-7.75 ; -13.155,-4.25 -13.155,-1.75 ; -13.155,1.75 -13.155,4.25 ; -13.155,7.75 -13.155,9.9 ; -9.9,-13.155 -7.75,-13.155 ; -9.9,13.155 -7.75,13.155 ; -4.25,-13.155 -1.75,-13.155 ; -4.25,13.155 -1.75,13.155 ; 1.75,-13.155 4.25,-13.155 ; 1.75,13.155 4.25,13.155 ; 7.75,-13.155 9.9,-13.155 ; 7.75,13.155 9.9,13.155 ; 13.155,-9.9 13.155,-7.75 ; 13.155,-4.25 13.155,-1.75 ; 13.155,1.75 13.155,4.25 ; 13.155,7.75 13.155,9.9
Top Component Outline:
  lines w0.1: -13.105,-13.105 -13.105,13.105 13.105,13.105 13.105,-13.105 -13.105,-13.105
Top 3D Body:
  lines w0.1: -13.105,-13.105 13.105,-13.105 13.105,13.105 -13.105,13.105 -13.105,-13.105
Top Courtyard:
  lines w0.05: -13.705,-13.705 -13.705,13.705 13.705,13.705 13.705,-13.705 -13.705,-13.705
Top Component Center:
  lines w0.05: -0.5,0 0.5,0 ; 0,-0.5 0,0.5
Top Designator (Mech19):
  text ".Designator" at -7.498,-0.5 h1.5
3D body "36905266S.stp": height 5.08, standoff 0, extent -13.105,-13.105 13.105,13.105

## 36906326S [mm] "Shielding Cabinet, body 32x32mm"
height 6.1
pads (24):
  rect 1x2.9 smd: 1(-15.9,-9) 1(-15.9,-3) 1(-15.9,3) 1(-15.9,9) 1(15.9,-9) 1(15.9,-3) 1(15.9,3) 1(15.9,9)
  rect 1x3.3 smd: 1(-15.9,-14.75) 1(-15.9,14.75) 1(15.9,-14.75) 1(15.9,14.75)
  rect 3.3x1 smd: 1(-14.75,-15.9) 1(-14.75,15.9) 1(14.75,-15.9) 1(14.75,15.9)
  rect 2.9x1 smd: 1(-9,-15.9) 1(-9,15.9) 1(-3,-15.9) 1(-3,15.9) 1(3,-15.9) 1(3,15.9) 1(9,-15.9) 1(9,15.9)
Top Overlay:
  lines w0.2: -16.05,-12.8 -16.05,-10.75 ; -16.05,-7.25 -16.05,-4.75 ; -16.05,-1.25 -16.05,1.25 ; -16.05,4.75 -16.05,7.25 ; -16.05,10.75 -16.05,12.8 ; -12.8,-16.05 -10.75,-16.05 ; -12.8,16.05 -10.75,16.05 ; -7.25,-16.05 -4.75,-16.05 ; -7.25,16.05 -4.75,16.05 ; -1.25,-16.05 1.25,-16.05 ; -1.25,16.05 1.25,16.05 ; 4.75,-16.05 7.25,-16.05 ; 4.75,16.05 7.25,16.05 ; 10.75,-16.05 12.8,-16.05 ; 10.75,16.05 12.8,16.05 ; 16.05,-12.8 16.05,-10.75 ; 16.05,-7.25 16.05,-4.75 ; 16.05,-1.25 16.05,1.25 ; 16.05,4.75 16.05,7.25 ; 16.05,10.75 16.05,12.8
Top Component Outline:
  lines w0.1: -16,-16 16,-16 16,16 -16,16 -16,-16
Top 3D Body:
  lines w0.1: -16,-16 -16,16 16,16 16,-16 -16,-16
Top Courtyard:
  lines w0.05: -16.6,-16.6 16.6,-16.6 16.6,16.6 -16.6,16.6 -16.6,-16.6
Top Component Center:
  lines w0.05: -0.5,0 0.5,0 ; 0,-0.5 0,0.5
Top Designator (Mech19):
  text ".Designator" at -7.498,-0.5 h1.5
3D body "36906326S.stp": height 6, standoff 0, extent -16,-16 16,16

## 36907406S [mm] "Shielding Cabinet, body 44.37x44.37mm"
height 9.85
pads (32):
  rect 1x3.3 smd: 1(-22.08,-20.93) 1(-22.08,20.93) 1(22.08,-20.93) 1(22.08,20.93)
  rect 1x2.9 smd: 1(-22.08,-15) 1(-22.08,-9) 1(-22.08,-3) 1(-22.08,3) 1(-22.08,9) 1(-22.08,15) 1(22.08,-15) 1(22.08,-9) 1(22.08,-3) 1(22.08,3) 1(22.08,9) 1(22.08,15)
  rect 3.3x1 smd: 1(-20.93,-22.08) 1(-20.93,22.08) 1(20.93,-22.08) 1(20.93,22.08)
  rect 2.9x1 smd: 1(-15,-22.08) 1(-15,22.08) 1(-9,-22.08) 1(-9,22.08) 1(-3,-22.08) 1(-3,22.08) 1(3,-22.08) 1(3,22.08) 1(9,-22.08) 1(9,22.08) 1(15,-22.08) 1(15,22.08)
Top Overlay:
  lines w0.2: -22.235,-19 -22.235,-16.75 ; -22.235,-13.25 -22.235,-10.75 ; -22.235,-7.25 -22.235,-4.75 ; -22.235,-1.25 -22.235,1.25 ; -22.235,4.75 -22.235,7.25 ; -22.235,10.75 -22.235,13.25 ; -22.235,16.75 -22.235,19 ; -19,-22.235 -16.75,-22.235 ; -19,22.235 -16.75,22.235 ; -13.25,-22.235 -10.75,-22.235 ; -13.25,22.235 -10.75,22.235 ; -7.25,-22.235 -4.75,-22.235 ; -7.25,22.235 -4.75,22.235 ; -1.25,-22.235 1.25,-22.235 ; -1.25,22.235 1.25,22.235 ; 4.75,-22.235 7.25,-22.235 ; 4.75,22.235 7.25,22.235 ; 10.75,-22.235 13.25,-22.235 ; 10.75,22.235 13.25,22.235 ; 16.75,-22.235 19,-22.235 ; 16.75,22.235 19,22.235 ; 22.235,-19 22.235,-16.75 ; 22.235,-13.25 22.235,-10.75 ; 22.235,-7.25 22.235,-4.75 ; 22.235,-1.25 22.235,1.25 ; 22.235,4.75 22.235,7.25 ; 22.235,10.75 22.235,13.25 ; 22.235,16.75 22.235,19
Top Component Outline:
  lines w0.1: -22.185,-22.185 -22.185,22.185 22.185,22.185 22.185,-22.185 -22.185,-22.185
Top 3D Body:
  lines w0.1: -22.185,-22.185 22.185,-22.185 22.185,22.185 -22.185,22.185 -22.185,-22.185
Top Courtyard:
  lines w0.05: -22.78,-22.78 -22.78,22.78 22.78,22.78 22.78,0 22.78,-22.78 -22.78,-22.78
Top Component Center:
  lines w0.05: -0.5,0 0.5,0 ; 0,-0.5 0,0.5
Top Designator (Mech19):
  text ".Designator" at -7.498,-0.5 h1.5
3D body "36907406S.stp": height 9.75, standoff 0, extent -22.185,-22.185 22.185,22.185

## 367054413 [mm] "Shielding Cabinet, SMT Frame Seamless, 54.4x23.9x13.5mm"
height 13.5
pads (4):
  rect 1x20 smd paste-2539.97 mask-2222: 1(-27.05,0) 1(27.05,0)
  rect 30x1 smd paste-2539.97 mask-2222: 1(0,-11.8) 1(0,11.8)
Top Layer:
  region: -27.8,-1 -27.8,9.45 -27.8,9.653 -27.747,10.056 -27.642,10.449 -27.486,10.824 -27.283,11.176 -27.036,11.498 -26.748,11.786 -26.426,12.033 -26.074,12.236 -25.699,12.392 -25.306,12.497 -24.903,12.55 -24.7,12.55 24.7,12.55 24.903,12.55 25.306,12.497 25.699,12.392 26.074,12.236 26.426,12.033 26.748,11.786 27.036,11.498 27.283,11.176 27.486,10.824 27.642,10.449 27.747,10.056 27.8,9.653 27.8,9.45 27.8,-1 26.3,-1 26.3,9.45 26.292,9.607 26.231,9.914 26.111,10.204 25.937,10.465 25.715,10.687 25.454,10.861 25.164,10.981 24.857,11.042 24.7,11.05 -24.7,11.05 -24.857,11.042 -25.164,10.981 -25.454,10.861 -25.715,10.687 -25.937,10.465 -26.111,10.204 -26.231,9.914 -26.292,9.607 -26.3,9.45 -26.3,-1
  region: -27.8,-0.25 -27.8,-9.45 -27.8,-9.653 -27.747,-10.056 -27.642,-10.449 -27.486,-10.824 -27.283,-11.176 -27.036,-11.498 -26.748,-11.786 -26.426,-12.033 -26.074,-12.236 -25.699,-12.392 -25.306,-12.497 -24.903,-12.55 -24.7,-12.55 24.7,-12.55 24.903,-12.55 25.306,-12.497 25.699,-12.392 26.074,-12.236 26.426,-12.033 26.748,-11.786 27.036,-11.498 27.283,-11.176 27.486,-10.824 27.642,-10.449 27.747,-10.056 27.8,-9.653 27.8,-9.45 27.8,-0.25 26.3,-0.25 26.3,-9.45 26.292,-9.607 26.231,-9.914 26.111,-10.204 25.937,-10.465 25.715,-10.687 25.454,-10.861 25.164,-10.981 24.857,-11.042 24.7,-11.05 -24.7,-11.05 -24.857,-11.042 -25.164,-10.981 -25.454,-10.861 -25.715,-10.687 -25.937,-10.465 -26.111,-10.204 -26.231,-9.914 -26.292,-9.607 -26.3,-9.45 -26.3,-0.25
Top Paste:
  region: -27.8,-0.25 -27.8,-9.45 -27.8,-9.653 -27.747,-10.056 -27.642,-10.449 -27.486,-10.824 -27.283,-11.176 -27.036,-11.498 -26.748,-11.786 -26.426,-12.033 -26.074,-12.236 -25.699,-12.392 -25.306,-12.497 -24.903,-12.55 -24.7,-12.55 24.7,-12.55 24.903,-12.55 25.306,-12.497 25.699,-12.392 26.074,-12.236 26.426,-12.033 26.748,-11.786 27.036,-11.498 27.283,-11.176 27.486,-10.824 27.642,-10.449 27.747,-10.056 27.8,-9.653 27.8,-9.45 27.8,-0.25 26.3,-0.25 26.3,-9.45 26.292,-9.607 26.231,-9.914 26.111,-10.204 25.937,-10.465 25.715,-10.687 25.454,-10.861 25.164,-10.981 24.857,-11.042 24.7,-11.05 -24.7,-11.05 -24.857,-11.042 -25.164,-10.981 -25.454,-10.861 -25.715,-10.687 -25.937,-10.465 -26.111,-10.204 -26.231,-9.914 -26.292,-9.607 -26.3,-9.45 -26.3,-0.25
  region: -27.8,0.25 -27.8,9.45 -27.8,9.653 -27.747,10.056 -27.642,10.449 -27.486,10.824 -27.283,11.176 -27.036,11.498 -26.748,11.786 -26.426,12.033 -26.074,12.236 -25.699,12.392 -25.306,12.497 -24.903,12.55 -24.7,12.55 24.7,12.55 24.903,12.55 25.306,12.497 25.699,12.392 26.074,12.236 26.426,12.033 26.748,11.786 27.036,11.498 27.283,11.176 27.486,10.824 27.642,10.449 27.747,10.056 27.8,9.653 27.8,9.45 27.8,0.25 26.3,0.25 26.3,9.45 26.292,9.607 26.231,9.914 26.111,10.204 25.937,10.465 25.715,10.687 25.454,10.861 25.164,10.981 24.857,11.042 24.7,11.05 -24.7,11.05 -24.857,11.042 -25.164,10.981 -25.454,10.861 -25.715,10.687 -25.937,10.465 -26.111,10.204 -26.231,9.914 -26.292,9.607 -26.3,9.45 -26.3,0.25
Assembly Notes:
  text "recommended tin paste thickness=0.5mm / customer to define the final stencil gap" at -7.8,-14.5 h0.5
Top Component Outline:
  lines w0.1: -27.2,-9.45 ccw(c-24.7,-9.45) -24.7,-11.95 24.7,-11.95 ccw(c24.7,-9.45) 27.2,-9.45 27.2,9.45 ccw(c24.7,9.45) 24.7,11.95 -24.7,11.95 ccw(c-24.7,9.45) -27.2,9.45 -27.2,-9.45
Top 3D Body:
  lines w0.1: -27.2,-9.45 ccw(c-24.7,-9.45) -24.7,-11.95 24.7,-11.95 ccw(c24.7,-9.45) 27.2,-9.45 27.2,9.45 ccw(c24.7,9.45) 24.7,11.95 -24.7,11.95 ccw(c-24.7,9.45) -27.2,9.45 -27.2,-9.45
Top Courtyard:
  lines w0.05: -28,-12.75 -28,12.75 28,12.75 28,-12.75 -28,-12.75
Top Component Center:
  lines w0.05: -0.5,0 0.5,0 ; 0,-0.5 0,0.5
Top Designator (Mech19):
  text ".Designator" at -7.498,-0.5 h1.5
3D body "367054413.stp": height 13.5, standoff 0, extent -27.2,-11.95 27.2,11.95

## 3610213126S [mm] "Shielding Cabinet, SMD Frame, body 12.7x13.66mm"
height 2.64
pads (12):
  rect 1x3.3 smd: 1(-6.25,-5.58) 1(-6.25,0) 1(-6.25,5.58) 1(6.25,-5.58) 1(6.25,0) 1(6.25,5.58)
  rect 3.3x1 smd: 1(-5.1,-6.73) 1(-5.1,6.73) 1(0,-6.73) 1(0,6.73) 1(5.1,-6.73) 1(5.1,6.73)
Top Overlay:
  lines w0.2: -6.4,-3.65 -6.4,-1.95 ; -6.4,1.95 -6.4,3.65 ; -3.15,-6.88 -1.95,-6.88 ; -3.15,6.88 -1.95,6.88 ; 1.95,-6.88 3.15,-6.88 ; 1.95,6.88 3.15,6.88 ; 6.4,-3.65 6.4,-1.95 ; 6.4,1.95 6.4,3.65
Top Component Outline:
  lines w0.1: -6.35,-6.83 -6.35,6.83 6.35,6.83 6.35,-6.83 -6.35,-6.83
Top 3D Body:
  lines w0.1: -6.35,-6.83 6.35,-6.83 6.35,6.83 -6.35,6.83 -6.35,-6.83
Top Courtyard:
  lines w0.05: -6.95,-7.43 -6.95,7.43 6.95,7.43 6.95,-7.43 -6.95,-7.43
Top Component Center:
  lines w0.05: -0.5,0 0.5,0 ; 0,-0.5 0,0.5
Top Designator (Mech19):
  text ".Designator" at -7.498,-0.5 h1.5
3D body "3610213126S.stp": height 2.55, standoff 0.01, extent -6.35,-6.83 6.35,6.83